# Altium schematic symbol library power.SchLib: 6 symbols
Pins are listed as number, name and electrical type; pins without a type are passive.

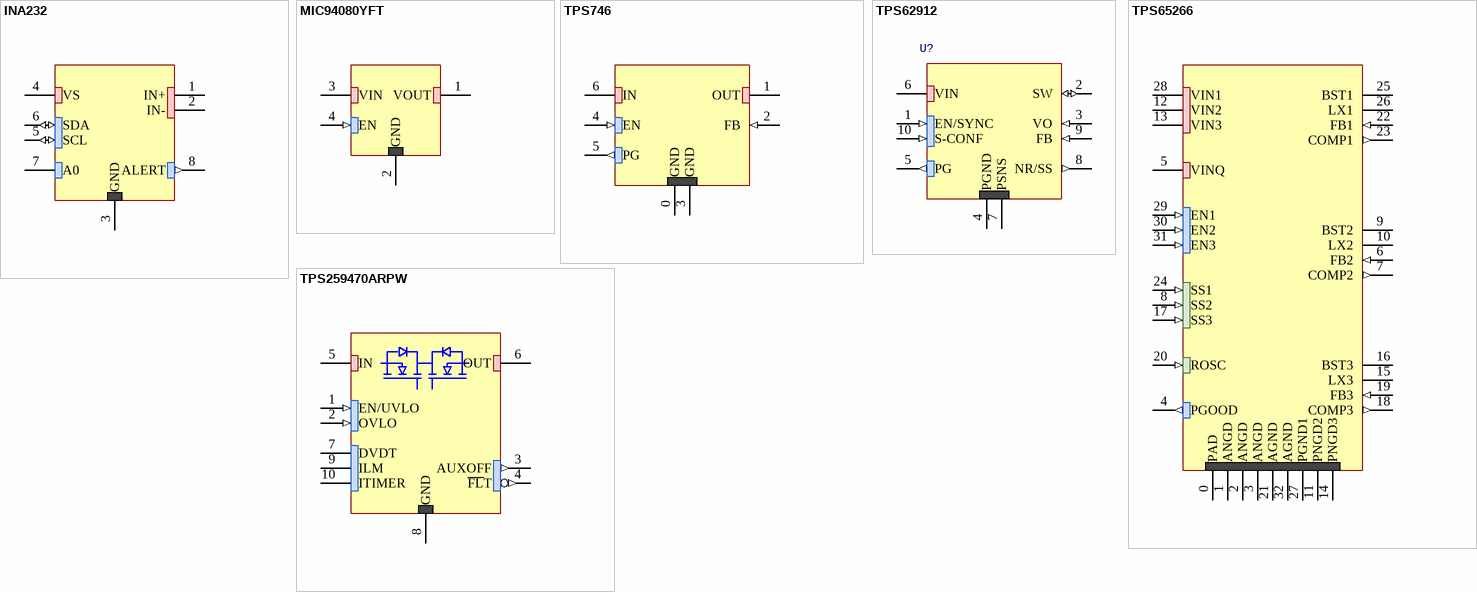
[diagram p0: symbols INA232 to TPS259470ARPW]

## INA232
designator U?
48-V, 16-Bit, Current, Voltage, and Power Monitor With an I2C Interface
footprint SOp-23-8
pins: 1 IN+ (power), 2 IN- (power), 3 GND, 4 VS (power), 5 SCL (io), 6 SDA (io), 7 A0, 8 ALERT (out)

## MIC94080YFT
designator U?
67 mΩ RDS(ON) 2A High-Side Load Switch in 0.85 mm x 0.85 mm FTDFN Package
footprint MIC94080YFT
pins: 1 VOUT (power), 2 GND (power), 3 VIN (power), 4 EN (in)

## TPS746
designator U?  (value not drawn)
High Accuracy Adjustable LDO With Power-Good in a Small Size Package
pins: 0 GND, 1 OUT (power), 2 FB (in), 3 GND (power), 4 EN (in), 5 PG (out), 6 IN (power)

## TPS62912
designator U?  (value not drawn)
3-V to 17-V, 2-A/3-A Low Noise and Low Ripple Buck Converter with Integrated Ferrite Bead Filter Compensation
footprint VQFN-HR-TPS6291X
pins: 1 EN/SYNC (in), 2 SW (io), 3 VO (in), 4 PGND, 5 PG (out), 6 VIN (power), 7 PSNS (power), 8 NR/SS (out), 9 FB (in), 10 S-CONF (in)

## TPS65266
designator U?  (value not drawn)
2.7- to 6.5-V Input Voltage, 3-A/2-A/2-A Output Current Triple Synchronous Step-Down Converter
pins: 0 PAD, 1 ANGD, 2 ANGD, 3 ANGD, 4 PGOOD (out), 5 VINQ (power), 6 FB2 (in), 7 COMP2 (out), 8 SS2 (in), 9 BST2 (power), 10 LX2 (power), 11 PNGD2, 12 VIN2 (power), 13 VIN3 (power), 14 PNGD3, 15 LX3 (power), 16 BST3 (power), 17 SS3 (in), 18 COMP3 (out), 19 FB3 (in), 20 ROSC (in), 21 AGND, 22 FB1 (in), 23 COMP1 (out), 24 SS1 (in), 25 BST1 (power), 26 LX1 (power), 27 PGND1, 28 VIN1 (power), 29 EN1 (in), 30 EN2 (in), 31 EN3 (in), 32 AGND

## TPS259470ARPW
designator U?  (value not drawn)
2.7-V–23-V, 5.5-A, 28-mΩ True Reverse Current Blocking eFuse with Input Reverse Polarity Protection. Variant: Adjustable OVLO, Active Current Limit, AUXOUT output, FAULT indicatori, Auto-Retry
footprint VQFN-HR-TPS25947X
pins: 1 EN/UVLO (in), 2 OVLO (in), 3 AUXOFF (out), 4 ~{FL}T (out), 5 IN (power), 6 OUT (power), 7 DVDT, 8 GND (power), 9 ILM, 10 ITIMER